# Altium footprint library Bollbot_V100.PcbLib: 34 footprints (part 3 of 3)
Each footprint in its own frame and in the unit in brackets; x right, y up, seen from the top. Pads: shape width x height; smd on the part's side, far side on the other; paste and mask are expansions set on the pad; w line width, h text height; cw(c..) or ccw(c..) is an arc to the next point about the centre after c.
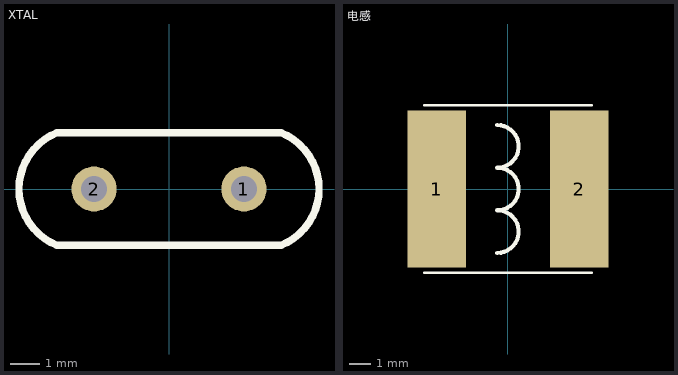
[diagram p2: the footprints below, top view; thin cyan lines are the x and y axes]

## XTAL [mil]
height 400
pads (2):
  round 60 hole 35: 1(100,0) 2(-100,0)
Top Overlay:
  lines w10: -150,-75 cw(c-118.93,0) -150,75 150,75 cw(c118.93,0) 150,-75 -150,-75
3D body "hc-49s_y.stp": height 137.8, standoff -118.11, extent -212.6,-88.58 212.6,88.59

## 电感 [mm]
height 5.08
pads (2):
  rect 2.8x7.5 smd: 1(-3.4,0) 2(3.4,0)
Top Overlay:
  lines w0.127: -4,-4 4,-4 ; -4,4 4,4
  lines w0.2: -0.508,-3.048 ccw(c-0.508,-2.032) -0.508,-1.016 ccw(c-0.508,0) -0.508,1.016 ccw(c-0.508,2.032) -0.508,3.048